# Altium schematic symbol library praline.SchLib: 24 symbols
Pins are listed as number, name and electrical type; pins without a type are passive.

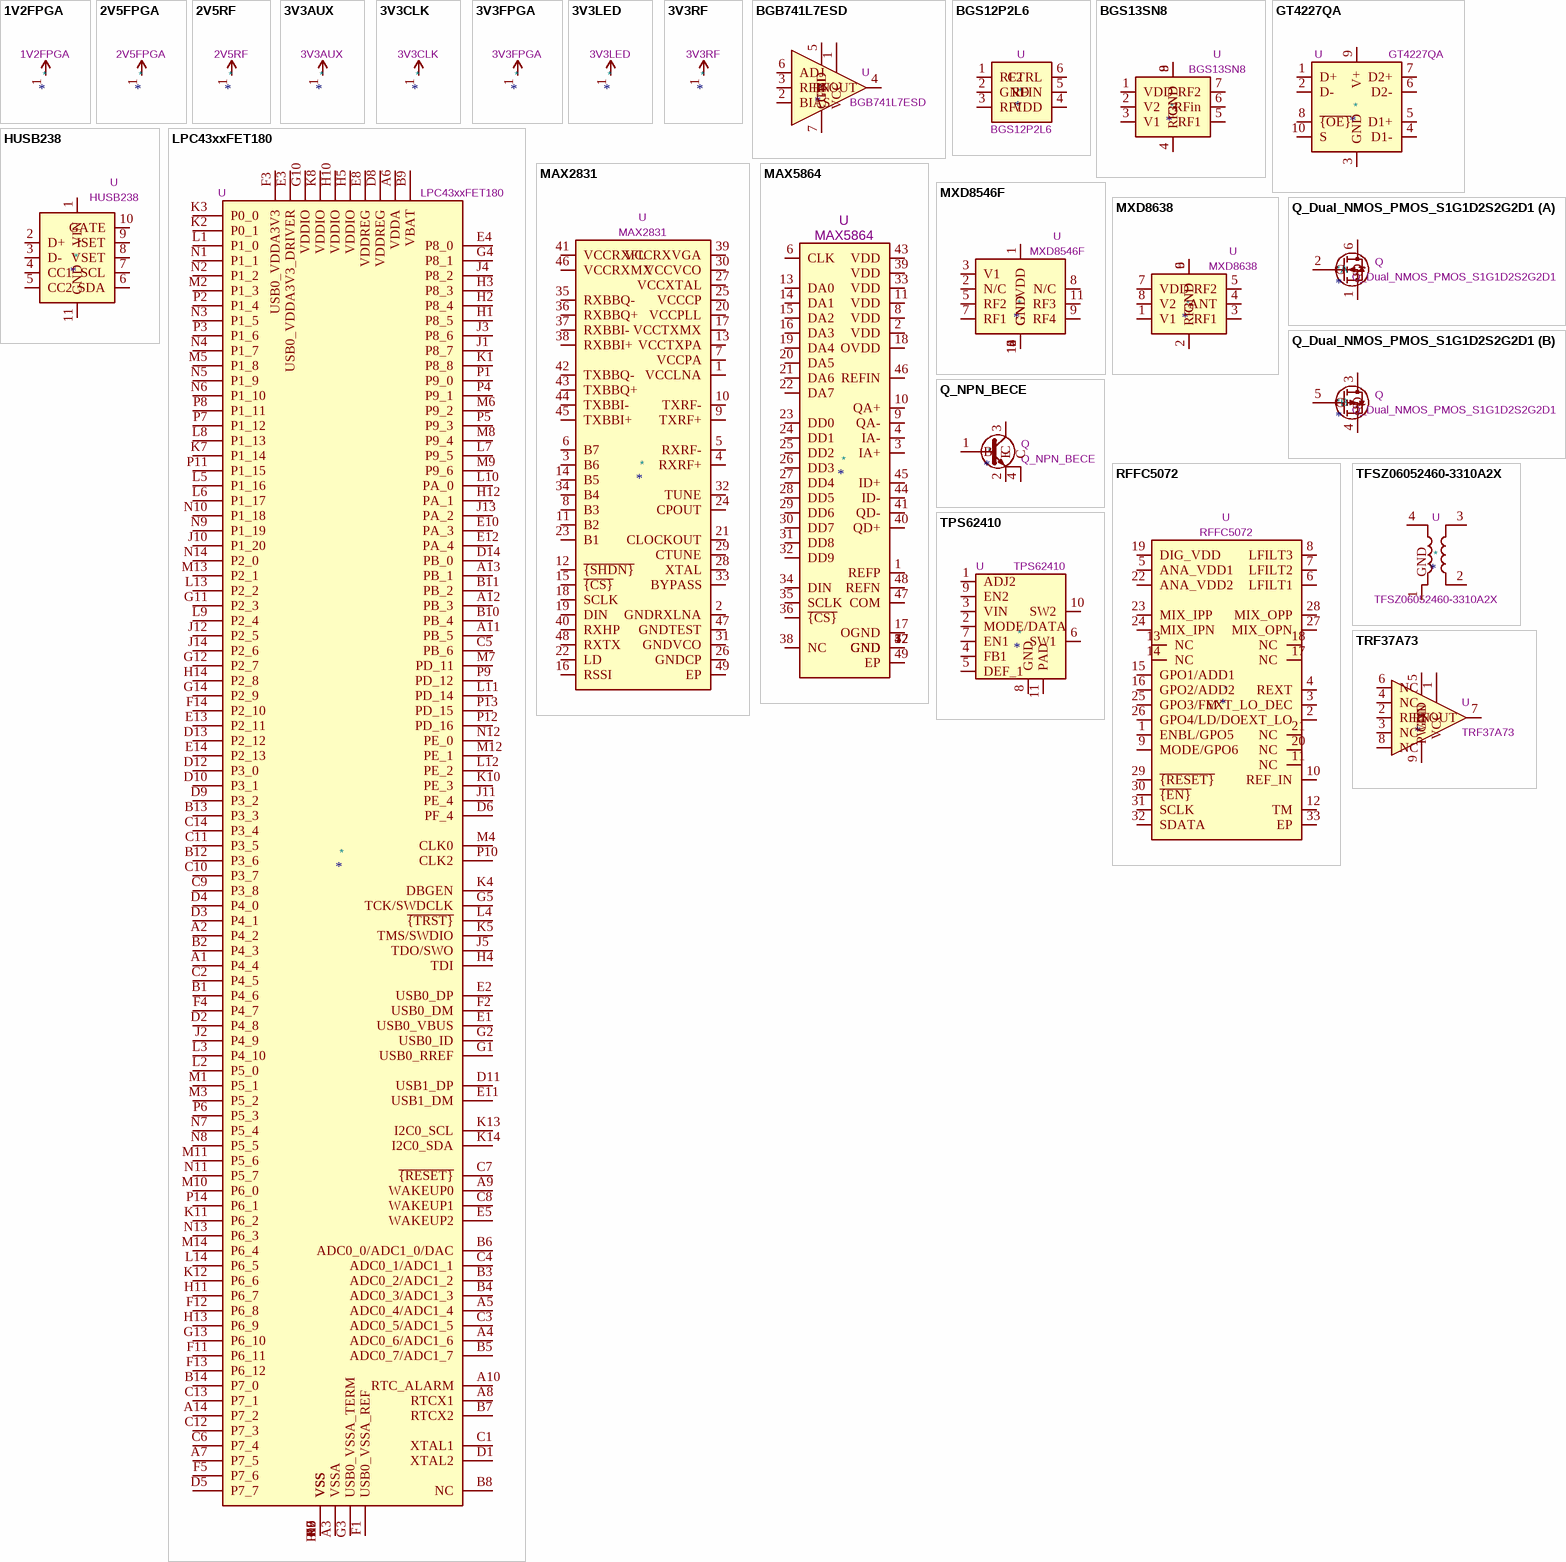
[diagram p0: symbols 1V2FPGA to TRF37A73]

## 1V2FPGA
designator *  value 1V2FPGA
Power symbol creates a global label with name "1V2FPGA"; Reference: #PWR; ki_keywords: global power; Description_: Power symbol creates a global label with name "1V2FPGA"
pins: 1

## 2V5FPGA
designator *  value 2V5FPGA
Power symbol creates a global label with name "2V5FPGA"; Reference: #PWR; ki_keywords: global power; Description_: Power symbol creates a global label with name "2V5FPGA"
pins: 1

## 2V5RF
designator *  value 2V5RF
Power symbol creates a global label with name "2V5RF"; Reference: #PWR; ki_keywords: global power; Description_: Power symbol creates a global label with name "2V5RF"
pins: 1

## 3V3AUX
designator *  value 3V3AUX
Power symbol creates a global label with name "3V3AUX"; Reference: #PWR; ki_keywords: global power; Description_: Power symbol creates a global label with name "3V3AUX"
pins: 1

## 3V3CLK
designator *  value 3V3CLK
Power symbol creates a global label with name "3V3CLK"; Reference: #PWR; ki_keywords: global power; Description_: Power symbol creates a global label with name "3V3CLK"
pins: 1

## 3V3FPGA
designator *  value 3V3FPGA
Power symbol creates a global label with name "3V3FPGA"; Reference: #PWR; ki_keywords: global power; Description_: Power symbol creates a global label with name "3V3FPGA"
pins: 1

## 3V3LED
designator *  value 3V3LED
Power symbol creates a global label with name "3V3LED"; Reference: #PWR; ki_keywords: global power; Description_: Power symbol creates a global label with name "3V3LED"
pins: 1

## 3V3RF
designator *  value 3V3RF
Power symbol creates a global label with name "3V3RF"; Reference: #PWR; ki_keywords: global power; Description_: Power symbol creates a global label with name "3V3RF"
pins: 1

## BGB741L7ESD
designator *  value BGB741L7ESD  Reference: U
Pre-matched general purpose LNA MMIC for 50 MHz- 3.5 GHz applications; ki_keywords: gain block RF LNA; ki_fp_filters: WSON*1EP*2x2mm*P0.5mm*; Footprint: praline:TSLP-7-1; Datasheet: https://www.infineon.com/dgdl/Infineon-BGB741L7ESD-DataSheet-v03_01-EN.pdf?fileId=5546d46265f064ff016638972c994ed7; Description_: Pre-matched general purpose LNA MMIC for 50 MHz- 3.5 GHz applications
pins: 1 VCC, 2 BIAS, 3 RFIN, 4 RFOUT, 5 CTRL, 6 ADJ, 7 GND

## BGS12P2L6
designator *  value BGS12P2L6  Reference: U
SPDT general purpose switch for high power applications; ki_keywords: RF switch SPDT; Footprint: praline:TSLP-6-4_1.1x0.7mm_P0.4mm; Datasheet: https://www.infineon.com/dgdl/Infineon-BGS12P2L6-DataSheet-v02_00-EN.pdf?fileId=5546d4626cb27db2016d4487d53603ce; Description_: SPDT general purpose switch for high power applications
pins: 1 RF2, 2 GND, 3 RF1, 4 VDD, 5 RFIN, 6 CTRL

## BGS13SN8
designator *  value BGS13SN8  Reference: U
Wideband RF SP3T Switch; ki_keywords: RF switch SP3T; Footprint: praline:TSNP-9-3; Datasheet: https://www.infineon.com/dgdl/Infineon-BGS13SN8-DS-v02_02-EN.pdf?fileId=5546d462584d1d4a0158cf52e3ae03a7; Description_: Wideband RF SP3T Switch
pins: 1 VDD, 2 V2, 3 V1, 4 RF3, 5 RF1, 6 RFin, 7 RF2, 8 GND, 9 GND

## GT4227QA
designator *  value GT4227QA  Reference: U
USB 2.0 Switch with ESD Protection, UQFN-10 Pitch 0.4 mm; ki_keywords: USB 2.0 High Speed Switch; ki_fp_filters: UQFN*1.3x1.8mm?P0.4mm* UQFN*1.6x2.1mm?P0.5mm*; Footprint: praline:GTIC_UQFN-10_1.4x1.8mm_P0.4mm; Datasheet: https://www.gtic.com/static/upload/file/20241013/1728795516451920.pdf; Description_: USB 2.0 Switch with ESD Protection, UQFN-10 Pitch 0.4 mm
pins: 1 D+, 2 D-, 3 GND, 4 D1-, 5 D1+, 6 D2-, 7 D2+, 8 ~{{OE}}, 9 V+, 10 S

## HUSB238
designator *  value HUSB238  Reference: U
USB Type-C Power Delivery Sink Controller; ki_keywords: USB Type-C PD CC; Footprint: Package_DFN_QFN:WDFN-10-1EP_3x3mm_P0.5mm_EP1.8x2.5mm; Datasheet: https://en.hynetek.com/2421.html; Description_: USB Type-C Power Delivery Sink Controller
pins: 1 VIN, 2 D+, 3 D-, 4 CC1, 5 CC2, 6 SDA, 7 SCL, 8 VSET, 9 ISET, 10 GATE, 11 GND

## LPC43xxFET180
designator *  value LPC43xxFET180  Reference: U
ARM Cortex-M4/M0 flashless MCU; ki_keywords: LPC4350 LPC4330 LPC4320 LPC4310 LPC43S50 LPC43S30 LPC43S20 ARM Cortex-M4; Footprint: praline:TFBGA-180_12x12mm_Layout14x14_P0.8mm; Datasheet: https://www.nxp.com/docs/en/data-sheet/LPC4350_30_20_10.pdf; Description_: ARM Cortex-M4/M0 flashless MCU
pins: A1 P4_4, A2 P4_2, A3 VSSA, A4 ADC0_6/ADC1_6, A5 ADC0_4/ADC1_4, A6 VDDA, A7 P7_5, A8 RTCX1, A9 WAKEUP0, A10 RTC_ALARM, A11 PB_5, A12 PB_3, A13 PB_1, A14 P7_2, B1 P4_6, B2 P4_3, B3 ADC0_2/ADC1_2, B4 ADC0_3/ADC1_3, B5 ADC0_7/ADC1_7, B6 ADC0_0/ADC1_0/DAC, B7 RTCX2, B8 NC, B9 VBAT, B10 PB_4, B11 PB_2, B12 P3_6, B13 P3_3, B14 P7_0, C1 XTAL1, C2 P4_5, C3 ADC0_5/ADC1_5, C4 ADC0_1/ADC1_1, C5 PB_6, C6 P7_4, C7 ~{{RESET}}, C8 WAKEUP1, C9 P3_8, C10 P3_7, C11 P3_5, C12 P7_3, C13 P7_1, C14 P3_4, D1 XTAL2, D2 P4_8, D3 P4_1, D4 P4_0, D5 P7_7, D6 PF_4, D7 VSS, D8 VDDREG, D9 P3_2, D10 P3_1, D11 USB1_DP, D12 P3_0, D13 P2_12, D14 PB_0, E1 USB0_VBUS, E2 USB0_DP, E3 USB0_VDDA3V3_DRIVER, E4 P8_0, E5 WAKEUP2, E6 VSS, E7 VSS, E8 VDDREG, E9 VSS, E10 PA_3, E11 USB1_DM, E12 PA_4, E13 P2_11, E14 P2_13, F1 USB0_VSSA_REF, F2 USB0_DM, F3 USB0_VDDA3V3, F4 P4_7, F5 P7_6, F10 VSS, F11 P6_11, F12 P6_8, F13 P6_12, F14 P2_10, G1 USB0_RREF, G2 USB0_ID, G3 USB0_VSSA_TERM, G4 P8_1, G5 TCK/SWDCLK, G10 VDDIO, G11 P2_3, G12 P2_7, G13 P6_10, G14 P2_9, H1 P8_5, H2 P8_4, H3 P8_3, H4 TDI, H5 VDDIO, H10 VDDIO, H11 P6_7, H12 PA_1, H13 P6_9, H14 P2_8, J1 P8_7, J2 P4_9, J3 P8_6, J4 P8_2, J5 TDO/SWO, J10 P1_20, J11 PE_4, J12 P2_5, J13 PA_2, J14 P2_6, K1 P8_8, K2 P0_1, K3 P0_0, K4 DBGEN, K5 TMS/SWDIO, K6 VSS, K7 P1_14, K8 VDDIO, K9 VSS, K10 PE_3, K11 P6_2, K12 P6_6, K13 I2C0_SCL, K14 I2C0_SDA, L1 P1_0, L2 P5_0, L3 P4_10, L4 ~{{TRST}}, L5 P1_16, L6 P1_17, L7 P9_5, L8 P1_13, L9 P2_4, L10 PA_0, L11 PD_14, L12 PE_2, L13 P2_2, L14 P6_5, M1 P5_1, M2 P1_3, M3 P5_2, M4 CLK0, M5 P1_8, M6 P9_2, M7 PD_11, M8 P9_4, M9 P9_6, M10 P6_0, M11 P5_6, M12 PE_1, M13 P2_1, M14 P6_4, N1 P1_1, N2 P1_2, N3 P1_5, N4 P1_7, N5 P1_9, N6 P1_10, N7 P5_4, N8 P5_5, N9 P1_19, N10 P1_18, N11 P5_7, N12 PE_0, N13 P6_3, N14 P2_0, P1 P9_0, P2 P1_4, P3 P1_6, P4 P9_1, P5 P9_3, P6 P5_3, P7 P1_12, P8 P1_11, P9 PD_12, P10 CLK2, P11 P1_15, P12 PD_16, P13 PD_15, P14 P6_1

## MAX2831
designator *  value MAX2831  Reference: U
2.4 GHz to 2.5 GHz 802.11g/b RF Transceiver with Integrated PA; ki_keywords: quadrature transceiver frequency synthesizer RF radio IQ I/Q; Footprint: Package_DFN_QFN:QFN-48-1EP_7x7mm_P0.5mm_EP5.6x5.6mm_ThermalVias; Datasheet: https://www.analog.com/media/en/technical-documentation/data-sheets/MAX2831-MAX2832.pdf; Description_: 2.4 GHz to 2.5 GHz 802.11g/b RF Transceiver with Integrated PA
pins: 1 VCCLNA, 2 GNDRXLNA, 3 B6, 4 RXRF+, 5 RXRF-, 6 B7, 7 VCCPA, 8 B3, 9 TXRF+, 10 TXRF-, 11 B2, 12 ~{{SHDN}}, 13 VCCTXPA, 14 B5, 15 ~{{CS}}, 16 RSSI, 17 VCCTXMX, 18 SCLK, 19 DIN, 20 VCCPLL, 21 CLOCKOUT, 22 LD, 23 B1, 24 CPOUT, 25 VCCCP, 26 GNDCP, 27 VCCXTAL, 28 XTAL, 29 CTUNE, 30 VCCVCO, 31 GNDVCO, 32 TUNE, 33 BYPASS, 34 B4, 35 RXBBQ-, 36 RXBBQ+, 37 RXBBI-, 38 RXBBI+, 39 VCCRXVGA, 40 RXHP, 41 VCCRXFL, 42 TXBBQ-, 43 TXBBQ+, 44 TXBBI-, 45 TXBBI+, 46 VCCRXMX, 47 GNDTEST, 48 RXTX, 49 EP

## MAX5864
designator *  value MAX5864  Reference: U
22 Msps Analog Front End; ki_keywords: ADC DAC 40Msps; Footprint: praline:QFN-48-1EP_7x7mm_P0.5mm_EP5.3x5.3mm_ThermalVias; Datasheet: https://www.analog.com/media/en/technical-documentation/data-sheets/MAX5864.pdf; Description_: 22 Msps Analog Front End
pins: 1 REFP, 2 VDD, 3 IA+, 4 IA-, 5 GND, 6 CLK, 7 GND, 8 VDD, 9 QA-, 10 QA+, 11 VDD, 12 GND, 13 DA0, 14 DA1, 15 DA2, 16 DA3, 17 OGND, 18 OVDD, 19 DA4, 20 DA5, 21 DA6, 22 DA7, 23 DD0, 24 DD1, 25 DD2, 26 DD3, 27 DD4, 28 DD5, 29 DD6, 30 DD7, 31 DD8, 32 DD9, 33 VDD, 34 DIN, 35 SCLK, 36 ~{{CS}}, 37 GND, 38 NC, 39 VDD, 40 QD+, 41 QD-, 42 GND, 43 VDD, 44 ID-, 45 ID+, 46 REFIN, 47 COM, 48 REFN, 49 EP

## MXD8546F
designator *  value MXD8546F  Reference: U
X-DPDT Switch for 0.4-3.8G Application; ki_keywords: RF switch DPDT; Footprint: praline:QFN-12-1EP_2x2mm_P0.5mm_EP1x1mm; Datasheet: https://www.lcsc.com/datasheet/lcsc_datasheet_1912111437_Maxscend-MXD8546FA_C462321.pdf; Description_: X-DPDT Switch for 0.4-3.8G Application
pins: 1 VDD, 2 N/C, 3 V1, 4 GND, 5 RF2, 6 GND, 7 RF1, 8 N/C, 9 RF4, 10 GND, 11 RF3, 12 GND, 13 GND

## MXD8638
designator *  value MXD8638  Reference: U
Wideband RF SP3T Switch; ki_keywords: RF switch SP3T; Footprint: praline:MXD8638; Datasheet: https://www.lcsc.com/datasheet/lcsc_datasheet_1912121108_Maxscend-MXD8638_C285558.pdf; Description_: Wideband RF SP3T Switch
pins: 1 V1, 2 RF3, 3 RF1, 4 ANT, 5 RF2, 6 GND, 7 VDD, 8 V2, 9 GND

## Q_Dual_NMOS_PMOS_S1G1D2S2G2D1
designator *  value Q_Dual_NMOS_PMOS_S1G1D2S2G2D1  Reference: Q
Dual NMOS/PMOS transistor, 6 pin package; ki_keywords: transistor NMOS N-MOS N-MOSFET PMOS P-MOS P-MOSFET MOSFET FET; ki_fp_filters: TSOP* SC?70* SC?88* SOT?363*; Datasheet: ~; Description_: Dual NMOS/PMOS transistor, 6 pin package
part A pins: 1 S, 2 G, 6 D
part B pins: 3 D, 4 S, 5 G

## Q_NPN_BECE
designator *  value Q_NPN_BECE  Reference: Q
NPN transistor, base/emitter/collector/emitter; ki_keywords: BJT; Datasheet: ~; Description_: NPN transistor, base/emitter/collector/emitter
pins: 1 B, 2 E, 3 C, 4 C

## RFFC5072
designator *  value RFFC5072  Reference: U
wideband synthesizer/VCO with integrated 6 GHz mixer; ki_keywords: frequency synthesizer mixer RF radio; Footprint: Package_DFN_QFN:QFN-32-1EP_5x5mm_P0.5mm_EP3.7x3.7mm_ThermalVias; Datasheet: https://www.qorvo.com/products/d/da000735; Description_: wideband synthesizer/VCO with integrated 6 GHz mixer
pins: 1 ENBL/GPO5, 2 EXT_LO, 3 EXT_LO_DEC, 4 REXT, 5 ANA_VDD1, 6 LFILT1, 7 LFILT2, 8 LFILT3, 9 MODE/GPO6, 10 REF_IN, 11 NC, 12 TM, 13 NC, 14 NC, 15 GPO1/ADD1, 16 GPO2/ADD2, 17 NC, 18 NC, 19 DIG_VDD, 20 NC, 21 NC, 22 ANA_VDD2, 23 MIX_IPP, 24 MIX_IPN, 25 GPO3/FM, 26 GPO4/LD/DO, 27 MIX_OPN, 28 MIX_OPP, 29 ~{{RESET}}, 30 ~{{EN}}, 31 SCLK, 32 SDATA, 33 EP

## TFSZ06052460-3310A2X
designator *  value TFSZ06052460-3310A2X  Reference: U
Thin-Film Balun for 2300-2690MHz; ki_keywords: balun rf transformer; ki_fp_filters: Balun*Johanson*0896BM15A0001*; Footprint: praline:Balun_TDK_TFSZ06052460-3310A2X; Datasheet: https://product.tdk.com/en/system/files/dam/doc/product/rf/rf/balun/catalog/rf_balun_tfsz06052460-3310a2x_en.pdf; Description_: Thin-Film Balun for 2300-2690MHz
pins: 1 GND, 2, 3, 4

## TPS62410
designator *  value TPS62410  Reference: U
TPS62410 2.25-MHz 2 x 800-mA Dual Step-Down Converter in Small 3 × 3 mm VSON Package; ki_keywords: dual step-down dc-dc buck regulator; ki_fp_filters: WSON*EP*2x3mm*P0.5mm*; Footprint: Package_SON:Texas_S-PVSON-N10_ThermalVias; Datasheet: https://www.ti.com/lit/ds/symlink/tps62410.pdf; Description_: TPS62410 2.25-MHz 2 x 800-mA Dual Step-Down Converter in Small 3 × 3 mm VSON Package
pins: 1 ADJ2, 2 MODE/DATA, 3 VIN, 4 FB1, 5 DEF_1, 6 SW1, 7 EN1, 8 GND, 9 EN2, 10 SW2, 11 PAD

## TRF37A73
designator *  value TRF37A73  Reference: U
6GHz, 12dB RF Gain Block, WSON-8; ki_keywords: gain block RF; ki_fp_filters: WSON*1EP*2x2mm*P0.5mm*; Footprint: Package_SON:WSON-8-1EP_2x2mm_P0.5mm_EP0.9x1.6mm; Datasheet: http://www.ti.com/lit/ds/symlink/trf37a73.pdf; Description_: 6GHz, 12dB RF Gain Block, WSON-8
pins: 1 VCC, 2 RFIN, 3 NC, 4 NC, 5 PWDN, 6 NC, 7 RFOUT, 8 NC, 9 GND